# Altium footprint library miscellaneous.PcbLib: 26 footprints (part 2 of 2)
Each footprint in its own frame and in the unit in brackets; x right, y up, seen from the top. Pads: shape width x height; smd on the part's side, far side on the other; paste and mask are expansions set on the pad; w line width, h text height; cw(c..) or ccw(c..) is an arc to the next point about the centre after c.
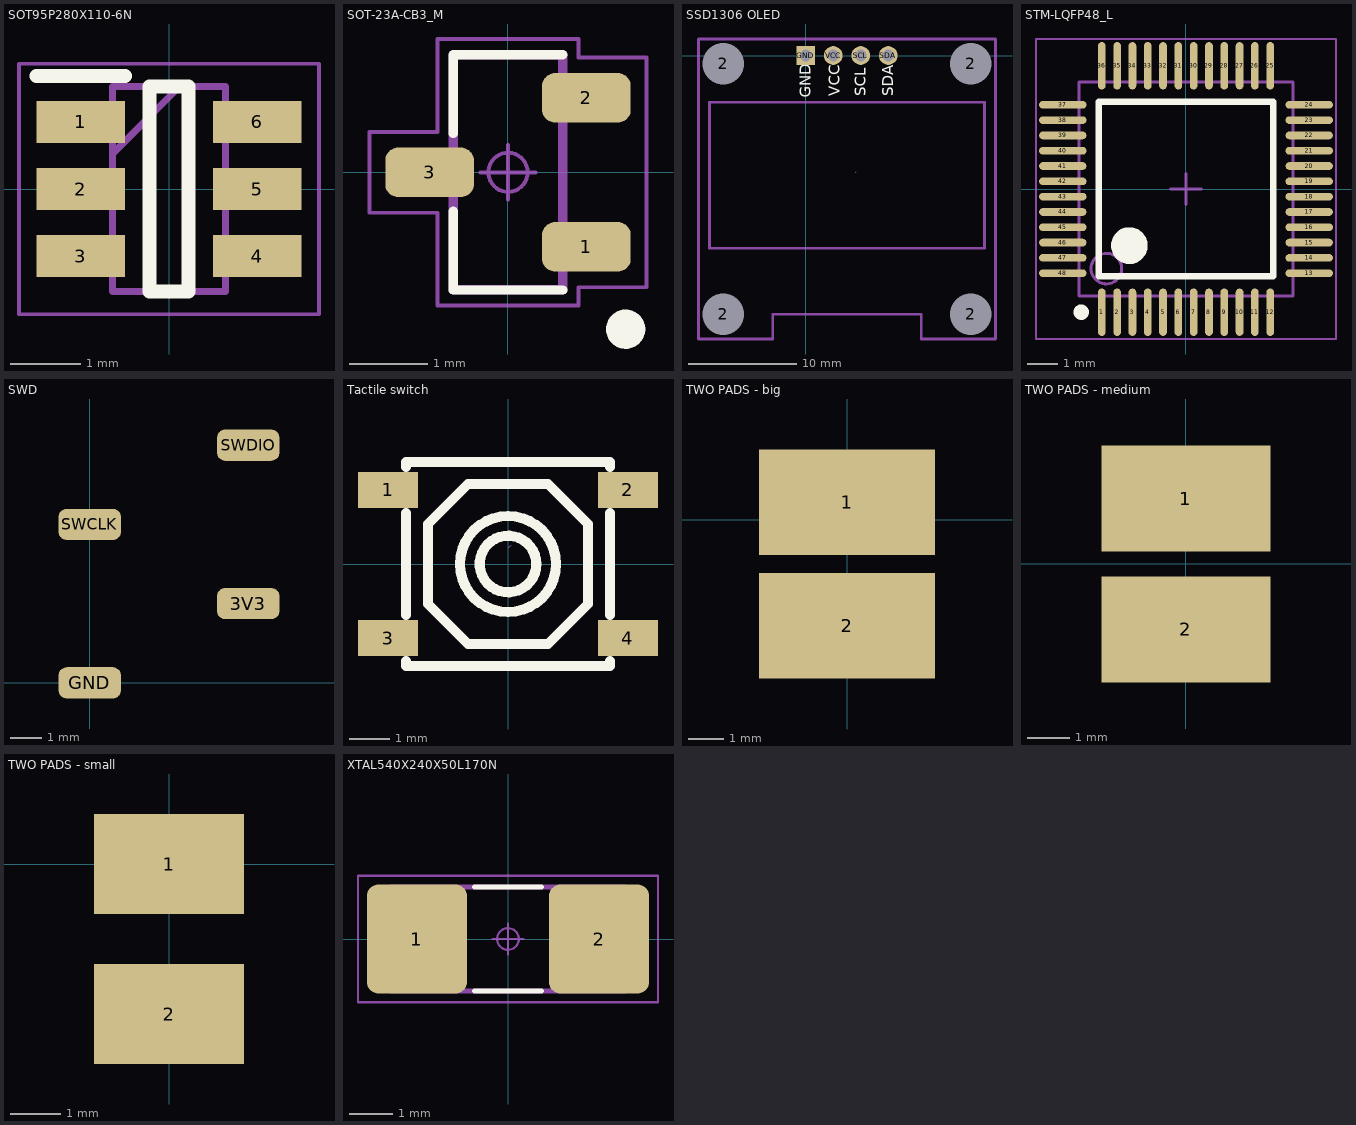
[diagram p1: the footprints below, top view; thin cyan lines are the x and y axes]

## SOT95P280X110-6N [mm]
pads (6):
  rect 1.25x0.6 smd: 1(-1.25,0.95) 2(-1.25,0) 3(-1.25,-0.95) 4(1.25,-0.95) 5(1.25,0) 6(1.25,0.95)
Top Overlay:
  lines w0.2: -1.875,1.6 -0.625,1.6 ; -0.275,-1.45 -0.275,1.45 0.275,1.45 0.275,-1.45 -0.275,-1.45
Mechanical 13:
  lines w0.1: -0.8,0.5 0.15,1.45 ; -0.8,-1.45 -0.8,1.45 0.8,1.45 0.8,-1.45 -0.8,-1.45
Mechanical 15:
  lines w0.05: -2.125,-1.775 -2.125,1.775 2.125,1.775 2.125,-1.775 -2.125,-1.775
3D body "TPS54201DDCR.stp": height 1.1, standoff 0, extent -1.4,-1.45 1.4,1.45

## SOT-23A-CB3_M [mm]
pads (3):
  rrect51% 1.13x0.63 smd: 1(1,-0.95) 2(1,0.95) 3(-1,0)
Top Overlay:
  circle w0.25: c1.5,-2 r0.125
  lines w0.12: -0.7,-0.495 -0.7,-1.5 0.7,-1.5 ; -0.7,0.495 -0.7,1.5 0.7,1.5
Mechanical 11:
  lines w0.12: -0.7,-1.5 0.7,-1.5 0.7,1.5 -0.7,1.5 -0.7,-1.5
Mechanical 12:
  lines w0.025: -1.2,-0.22 -1.2,0.22 -0.67,0.22 -0.67,-0.22 -1.2,-0.22 ; -0.65,-1.45 0.65,-1.45 0.65,1.45 -0.65,1.45 -0.65,-1.45 ; 0.67,-1.17 1.2,-1.17 1.2,-0.73 0.67,-0.73 0.67,-1.17 ; 0.67,0.73 1.2,0.73 1.2,1.17 0.67,1.17 0.67,0.73
Mechanical 15:
  circle w0.05: c0,0 r0.25
  lines w0.05: -0.35,0 0.35,0 ; 0,-0.35 0,0.35 ; -1.765,-0.515 -0.9,-0.515 -0.9,-1.7 0.9,-1.7 0.9,-1.465 1.765,-1.465 1.765,1.465 0.9,1.465 0.9,1.7 -0.9,1.7 -0.9,0.515 -1.765,0.515 -1.765,-0.515
3D body "SOT23-3P95_240X110L53X44.STEP": height 1.1, standoff 0, extent -1.2,-1.45 1.2,1.45

## SSD1306 OLED [mil]
pads (8):
  round 75 hole 150 unplated: 2(-300,-940) 2(-300,-30) 2(600,-940) 2(600,-30)
  rect 68x68 hole 42: GND(0,0)
  round 68 hole 42: SCL(200,0) SDA(300,0) VCC(100,0)
Top Overlay:
  text "GND" at 17.91,-152.91 h39.37
  text "VCC" at 122.91,-147.91 h39.37
  text "SCL" at 217.91,-147.91 h39.37
  text "SDA" at 317.91,-147.91 h39.37
Mechanical 2:
  lines w10: -350,-700 -350,-200 -350,-170 650,-170 650,-700 -350,-700
Mechanical 15:
  lines w0.1: 181.5,-423.5 183.5,-421.5
  lines w10: -390,-1030 -390,60 690,60 690,-1030 420,-1030 420,-940 -120,-940 -120,-1030 -390,-1030
3D body "OLED TFT 0.96 inch 64x128 monochrome.STEP": height 515.75, standoff 31.5, extent -387.4,-1034.48 687.41,60.01

## STM-LQFP48_L [mm]
pads (48):
  oval 0.25x1.55 smd: 1(-2.75,-4.025) 2(-2.25,-4.025) 3(-1.75,-4.025) 4(-1.25,-4.025) 5(-0.75,-4.025) 6(-0.25,-4.025) 7(0.25,-4.025) 8(0.75,-4.025) 9(1.25,-4.025) 10(1.75,-4.025) 11(2.25,-4.025) 12(2.75,-4.025) 25(2.75,4.025) 26(2.25,4.025) 27(1.75,4.025) 28(1.25,4.025) 29(0.75,4.025) 30(0.25,4.025) 31(-0.25,4.025) 32(-0.75,4.025) 33(-1.25,4.025) 34(-1.75,4.025) 35(-2.25,4.025) 36(-2.75,4.025)
  oval 1.55x0.25 smd: 13(4.025,-2.75) 14(4.025,-2.25) 15(4.025,-1.75) 16(4.025,-1.25) 17(4.025,-0.75) 18(4.025,-0.25) 19(4.025,0.25) 20(4.025,0.75) 21(4.025,1.25) 22(4.025,1.75) 23(4.025,2.25) 24(4.025,2.75) 37(-4.025,2.75) 38(-4.025,2.25) 39(-4.025,1.75) 40(-4.025,1.25) 41(-4.025,0.75) 42(-4.025,0.25) 43(-4.025,-0.25) 44(-4.025,-0.75) 45(-4.025,-1.25) 46(-4.025,-1.75) 47(-4.025,-2.25) 48(-4.025,-2.75)
Top Overlay:
  circle w0.6: c-1.85,-1.85 r0.3
  circle w0.25: c-3.425,-4.025 r0.125
  lines w0.2: -2.85,-2.85 -2.85,2.85 2.85,2.85 2.85,-2.85 -2.85,-2.85
Mechanical 13:
  circle w0.1: c-2.6,-2.6 r0.5
  lines w0.1: -3.5,-3.5 -3.5,3.5 3.5,3.5 3.5,-3.5 -3.5,-3.5
Mechanical 15:
  lines w0.05: -4.9,-4.9 -4.9,4.9 4.9,4.9 4.9,-4.9 -4.9,-4.9
  lines w0.1: -0.5,0 0.5,0 ; 0,-0.5 0,0.5
3D body: height 1.6, standoff 0.05, extent -3.5,-3.5 3.5,3.5

## SWD [mm] "SWD PORT"
pads (4):
  rrect50% 2x1 smd: 3V3(5.08,2.54) GND(0,0) SWCLK(0,5.08) SWDIO(5.08,7.62)

## Tactile switch [mm]
pads (4):
  rect 1.5x0.9 smd: 1(-3,1.85) 2(3,1.85) 3(-3,-1.85) 4(3,-1.85)
Top Overlay:
  circle w0.254: c0,0 r1.2
  circle w0.254: c0,0 r0.707
  lines w0.254: -2.55,-2.431 -2.55,-2.55 2.55,-2.55 2.55,-2.431 ; -2.55,-1.269 -2.55,1.269 ; -2.55,2.431 -2.55,2.55 2.55,2.55 2.55,2.431 ; 2.55,-1.269 2.55,1.269 ; -2,-1 -1,-2 1,-2 2,-1 2,1 1,2 -1,2 -2,1 -2,-1
Mechanical 15:
  lines w0.003: 0.025,0.423 0.075,0.474

## TWO PADS - big [mm] "5.00 mm x 3.00 mm, 0.5 mm space"
pads (2):
  rect 5x3 smd: 1(0,0.5) 2(0,-3)

## TWO PADS - medium [mm] "4.00 mm x 2.50 mm, 0.50 mm space"
pads (2):
  rect 4x2.5 smd: 1(0,1.55) 2(0,-1.55)

## TWO PADS - small [mm] "3.00 mm x 2.00 mm, 1.00 mm space"
pads (2):
  rect 3x2 smd: 1(0,0) 2(0,-3)

## XTAL540X240X50L170N [mm] "XTAL, Chip; 5032; 5.40 mm L X 2.40 mm W X 0.50 mm H body"
height 0.5
pads (2):
  rrect22% 2.31x2.51 smd: 1(-2.1,0) 2(2.1,0)
Top Overlay:
  lines w0.12: -0.765,-1.2 0.765,-1.2 ; -0.765,1.2 0.765,1.2
Mechanical 11:
  lines w0.12: -2.7,-1.2 2.7,-1.2 2.7,1.2 -2.7,1.2 -2.7,-1.2
Mechanical 12:
  lines w0.025: -2.7,-1.2 2.7,-1.2 ; -2.7,-1.2 -2.7,1.2 ; -2.7,-1.2 -2.7,1.2 ; -2.7,-1.2 -1,-1.2 -1,1.2 -2.7,1.2 ; -2.7,1.2 2.7,1.2 ; 2.7,-1.2 2.7,1.2 ; 2.7,-1.2 1,-1.2 1,1.2 2.7,1.2 ; 2.7,-1.2 2.7,1.2
Mechanical 15:
  circle w0.05: c0,0 r0.25
  lines w0.05: -0.35,0 0.35,0 ; 0,-0.35 0,0.35 ; -3.46,-1.46 3.46,-1.46 3.46,1.46 -3.46,1.46 -3.46,-1.46
3D body: height 0.25, standoff 0, extent 0,0 0.254,0.254
3D body "XTAL540X240X50L170N.STEP": height 0.5, standoff 0, extent -2.7,-1.2 2.7,1.2